# Altium schematic symbol library VoltageRegulator.SchLib: 1 symbol
Pins are listed as number, name and electrical type; pins without a type are passive.

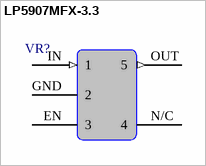
[diagram p0: symbol LP5907MFX-3.3]

## LP5907MFX-3.3
designator VR?
250-mA Ultra-Low-Noise, Low-IQ LDO; Manufacturer Part Number: LP5907MFX-3.3/NOPB; Manufacturer: Texas Instruments; Supplier 1: Mouser; Supplier Part Number 1: 595-LP5907MFX-3.3NPB
footprint LP5907MFX-3.3 (SOT23, 5-Leads, Body 2,90x2,80mm, Pitch 1,00mm, IPC Medium Density)
pins: EN 3, GND 2, IN 1 (in), N/C 4, OUT 5 (out)